# EAGLE library part MSX_SLOT_CON_60 (library msx_edge_conn_60)
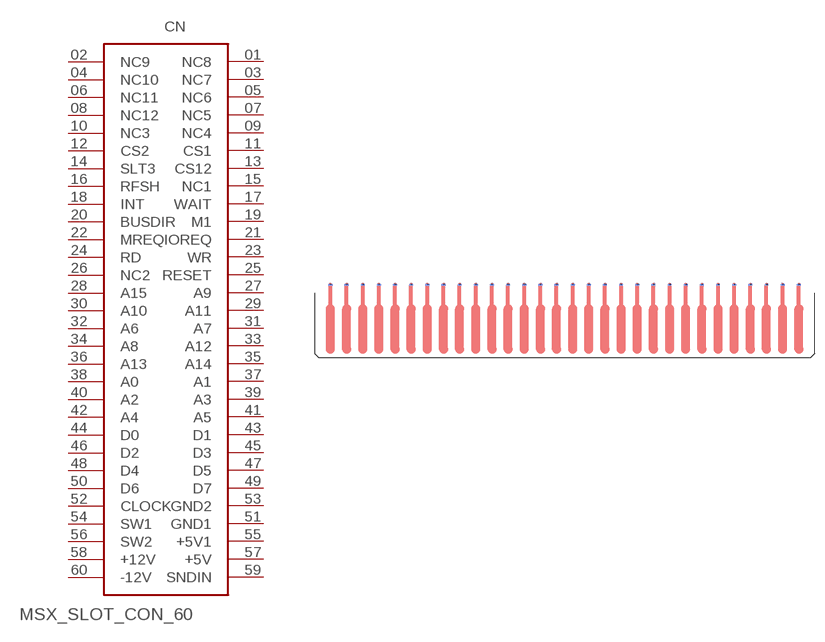
[diagram p0: symbol with the pads of MSX_SLOT_CON_60; footprint MSX_SLOT_CON_60]

Designator prefix CN

## MSX_SLOT_CON_60  [MSX_SLOT_CON_60]
01  NC8
02  NC9
03  NC7
04  NC10
05  NC6
06  NC11
07  NC5
08  NC12
09  NC4
10  NC3
11  CS1
12  CS2
13  CS12
14  SLT3
15  NC1
16  RFSH
17  WAIT
18  INT
19  M1
20  BUSDIR
21  IOREQ
22  MREQ
23  WR
24  RD
25  RESET
26  NC2
27  A9
28  A15
29  A11
30  A10
31  A7
32  A6
33  A12
34  A8
35  A14
36  A13
37  A1
38  A0
39  A3
40  A2
41  A5
42  A4
43  D1
44  D0
45  D3
46  D2
47  D5
48  D4
49  D7
50  D6
51  GND1
52  CLOCK
53  GND2
54  SW1
55  +5V1
56  SW2
57  +5V
58  +12V
59  SNDIN
60  -12V

## Footprint MSX_SLOT_CON_60 (pad centres in mm)
smd 0.61 x 0.305 bottom: 01 -30.48,11.43; 03 -27.94,11.43; 05 -25.4,11.43; 07 -22.86,11.43; 09 -20.32,11.43; 11 -17.78,11.43; 13 -15.24,11.43; 15 -12.7,11.43; 17 -10.16,11.43; 19 -7.62,11.43; 21 -5.08,11.43; 23 -2.54,11.43; 25 0,11.43; 27 2.54,11.43; 29 5.08,11.43; 31 7.62,11.43; 33 10.16,11.43; 35 12.7,11.43; 37 15.24,11.43; 39 17.78,11.43; 41 20.32,11.43; 43 22.86,11.43; 45 25.4,11.43; 47 27.94,11.43; 49 30.48,11.43; 51 33.02,11.43; 53 35.56,11.43; 55 38.1,11.43; 57 40.64,11.43; 59 43.18,11.43
smd 0.61 x 0.305: 02 -30.48,11.43; 04 -27.94,11.43; 06 -25.4,11.43; 08 -22.86,11.43; 10 -20.32,11.43; 12 -17.78,11.43; 14 -15.24,11.43; 16 -12.7,11.43; 18 -10.16,11.43; 20 -7.62,11.43; 22 -5.08,11.43; 24 -2.54,11.43; 26 0,11.43; 28 2.54,11.43; 30 5.08,11.43; 32 7.62,11.43; 34 10.16,11.43; 36 12.7,11.43; 38 15.24,11.43; 40 17.78,11.43; 42 20.32,11.43; 44 22.86,11.43; 46 25.4,11.43; 48 27.94,11.43; 50 30.48,11.43; 52 33.02,11.43; 54 35.56,11.43; 56 38.1,11.43; 58 40.64,11.43; 60 43.18,11.43